# EAGLE library part RJ45_8X2_JACK (library LEDscape)
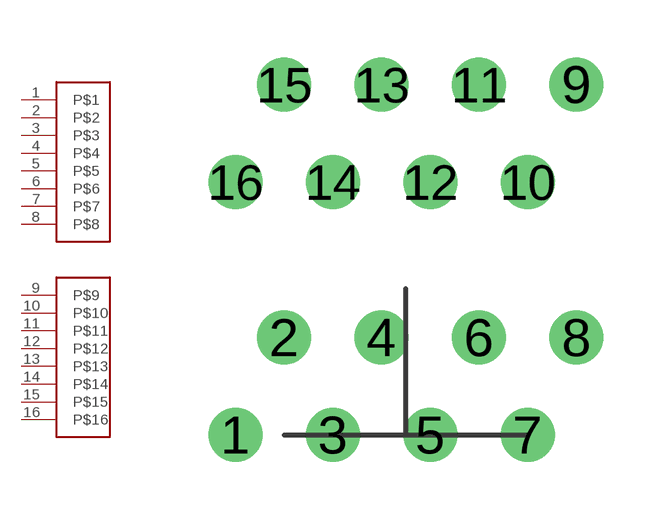
[diagram p0: symbol with the pads of RJ45_8X2_JACK; footprint RJ45_8X2_JACK]

Designator prefix -

## RJ45_8X2_JACK  [RJ45_8X2_JACK]
1  P$1
2  P$2
3  P$3
4  P$4
5  P$5
6  P$6
7  P$7
8  P$8
9  P$9
10  P$10
11  P$11
12  P$12
13  P$13
14  P$14
15  P$15
16  P$16

## Footprint RJ45_8X2_JACK (pad centres in mm)
drill 0.9: 1 -4.445,0; 2 -3.175,2.54; 3 -1.905,0; 4 -0.635,2.54; 5 0.635,0; 6 1.905,2.54; 7 3.175,0; 8 4.445,2.54; 9 4.445,9.14; 10 3.175,6.6; 11 1.905,9.14; 12 0.635,6.6; 13 -0.635,9.14; 14 -1.905,6.6; 15 -3.175,9.14; 16 -4.445,6.6